# Altium schematic symbol library op_amp.SchLib: 1 symbol
Pins are listed as number, name and electrical type; pins without a type are passive.

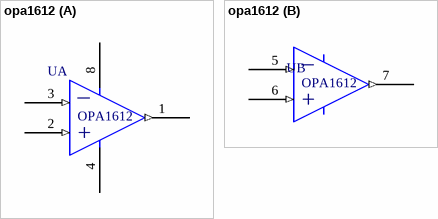
[diagram p0: symbol opa1612]

## opa1612
designator U  (value not drawn)
part A pins: 1 OUTA (out), 2 IN+A (in), 3 IN-A (in), 4 V-, 8 V+
part B pins: 5 IN-B (in), 6 IN+B (in), 7 OUTB (out)
part A text: _; OPA1612; +
part B text: _; OPA1612; +